# EAGLE library part 1-215570-2 (library con-te-micro-match)
CONN PADDLE BRD 12-POS VERT 28-AWG
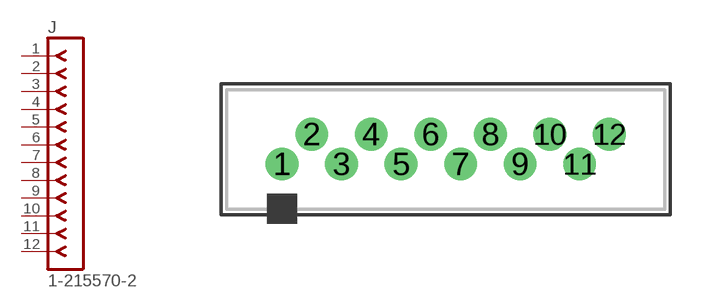
[diagram p16: symbol with the pads of 1-215570-2; footprint 1-215570-2]

Designator prefix J

## 1-215570-2  [1-215570-2]
1  1  pas
2  2  pas
3  3  pas
4  4  pas
5  5  pas
6  6  pas
7  7  pas
8  8  pas
9  9  pas
10  10  pas
11  11  pas
12  12  pas

## Footprint 1-215570-2 (pad centres in mm)
CONN PADDLE BRD 12-POS VERT 28AWG
drill 0.889 pad 1.397: 1 -6.985,-0.635; 2 -5.715,0.635; 3 -4.445,-0.635; 4 -3.175,0.635; 5 -1.905,-0.635; 6 -0.635,0.635; 7 0.635,-0.635; 8 1.905,0.635; 9 3.175,-0.635; 10 4.445,0.635; 11 5.715,-0.635; 12 6.985,0.635